# Altium footprint library TSS-120-01-L-D.PcbLib: 1 footprints
Each footprint in its own frame and in the unit in brackets; x right, y up, seen from the top. Pads: shape width x height; smd on the part's side, far side on the other; paste and mask are expansions set on the pad; w line width, h text height; cw(c..) or ccw(c..) is an arc to the next point about the centre after c.
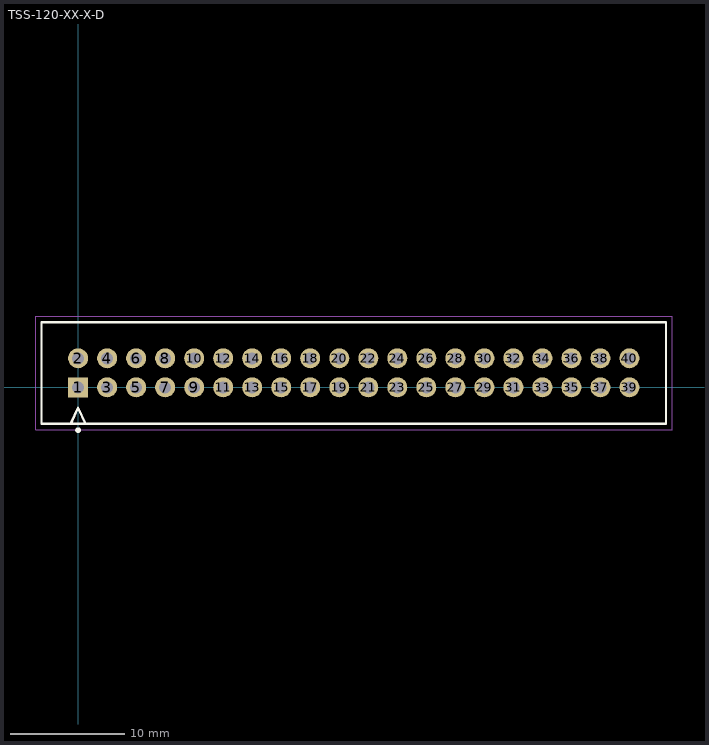
[diagram p0: the footprint, top view; thin cyan lines are the x and y axes]

## TSS-120-XX-X-D [mm] "2.54mm pitch, 40 pin, header; shrouded"
height 8.89
pads (40):
  rect 1.75x1.75 / inner round 1.75 / far side rect 1.75x1.75 hole 1.05 mask+0: 1(0,0)
  round 1.75 hole 1.05 mask+0: 2(0,2.54) 3(2.54,0) 4(2.54,2.54) 5(5.08,0) 6(5.08,2.54) 7(7.62,0) 8(7.62,2.54) 9(10.16,0) 10(10.16,2.54) 11(12.7,0) 12(12.7,2.54) 13(15.24,0) 14(15.24,2.54) 15(17.78,0) 16(17.78,2.54) 17(20.32,0) 18(20.32,2.54) 19(22.86,0) 20(22.86,2.54) 21(25.4,0) 22(25.4,2.54) 23(27.94,0) 24(27.94,2.54) 25(30.48,0) 26(30.48,2.54) 27(33.02,0) 28(33.02,2.54) 29(35.56,0) 30(35.56,2.54) 31(38.1,0) 32(38.1,2.54) 33(40.64,0) 34(40.64,2.54) 35(43.18,0) 36(43.18,2.54) 37(45.72,0) 38(45.72,2.54) 39(48.26,0) 40(48.26,2.54)
Top Overlay:
  circle w0.25: c0,-3.75 r0.125
  lines w0.2: -3.2,-3.2 51.46,-3.2 51.46,5.7 -3.2,5.7 -3.2,-3.2 ; -0.646,-3.2 0,-1.8 0.646,-3.2 -0.646,-3.2
Mechanical 12:
  lines w0.001: -3.2,-3.2 51.46,-3.2 51.46,5.7 -3.2,5.7 -3.2,-3.2
Mechanical 13:
  lines w0.1: -3.2,-3.2 51.46,-3.2 51.46,5.7 -3.2,5.7 -3.2,-3.2 ; -0.646,-3.2 0,-1.8 0.646,-3.2 -0.646,-3.2
  text ".Designator" at 0,0 h1.52
Mechanical 15:
  lines w0.05: -3.7,-3.7 52,-3.7 52,6.2 -3.7,6.2 -3.7,-3.7
3D body "TSS-120-01-L-D.stp": height 8.89, standoff -3.3, extent -3.175,-3.429 51.435,5.842